# Altium footprint library PVT412ASPBF.PcbLib: 3 footprints
Each footprint in its own frame and in the unit in brackets; x right, y up, seen from the top. Pads: shape width x height; smd on the part's side, far side on the other; paste and mask are expansions set on the pad; w line width, h text height; cw(c..) or ccw(c..) is an arc to the next point about the centre after c.
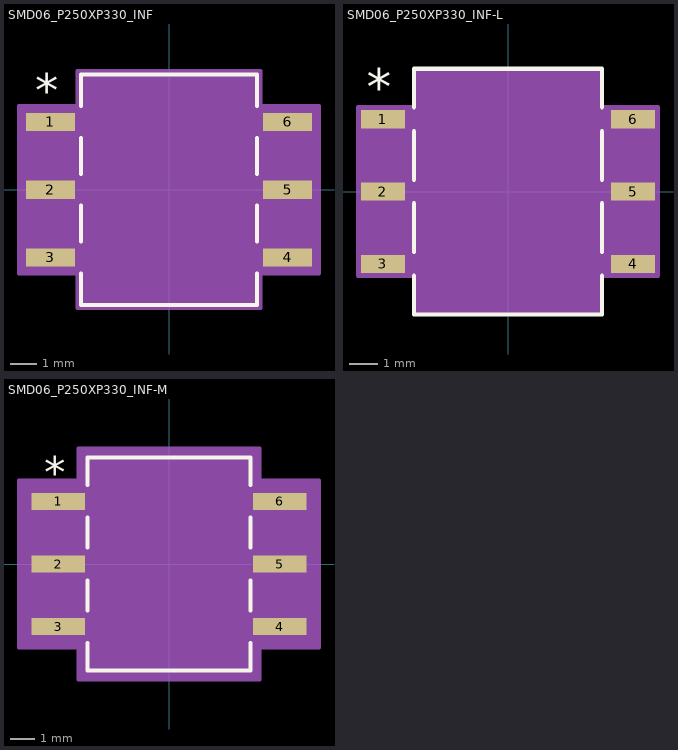
[diagram p0: the footprints below, top view; thin cyan lines are the x and y axes]

## SMD06_P250XP330_INF [mil]
pads (6):
  rect 73x27 smd paste+0 mask+0: 1(-175,100) 2(-175,0) 3(-175,-100) 4(175,-100) 5(175,0) 6(175,100)
Top Overlay:
  lines w6: -130,-123.47 -130,-170 130,-170 130,-123.47 ; -130,-76.53 -130,-23.47 ; -130,23.47 -130,76.53 ; -130,123.47 -130,170 130,170 130,123.47 ; 130,-76.53 130,-23.47 ; 130,23.47 130,76.53
  text "*" at -197.5,122 h50
Mechanical 13:
  lines w0: -12,165 ccw(c0,165) 12,165
  lines w1: -197.5,-112.5 -197.5,-87.5 -125,-87.5 -125,-112.5 -197.5,-112.5 ; -197.5,-12.5 -197.5,12.5 -125,12.5 -125,-12.5 -197.5,-12.5 ; -197.5,87.5 -197.5,112.5 -125,112.5 -125,87.5 -197.5,87.5 ; -125,-165 125,-165 125,165 -125,165 -125,-165 ; 125,-112.5 125,-87.5 197.5,-87.5 197.5,-112.5 125,-112.5 ; 125,-12.5 125,12.5 197.5,12.5 197.5,-12.5 125,-12.5 ; 125,87.5 125,112.5 197.5,112.5 197.5,87.5 125,87.5
  text "*" at -122.5,112 h50
Mechanical 15:
  region: -135,-123.5 -221.5,-123.5 -221.5,123.5 -135,123.5 -135,175 135,175 135,123.5 221.5,123.5 221.5,-123.5 135,-123.5 135,-175 -135,-175
  lines w6: -221.5,-123.5 -221.5,123.5 -135,123.5 -135,175 135,175 135,123.5 221.5,123.5 221.5,-123.5 135,-123.5 135,-175 -135,-175 -135,-123.5 -221.5,-123.5
3D body "SMD06_P250XP330_INF.step": height 135.12, standoff 0, extent -197.52,-165 197.52,165

## SMD06_P250XP330_INF-L [mil]
pads (6):
  rect 61x25 smd paste+0 mask+0: 1(-173,100) 2(-173,0) 3(-173,-100) 4(173,-100) 5(173,0) 6(173,100)
Top Overlay:
  lines w6: -130,-116.42 -130,-170 130,-170 130,-116.42 ; -130,-83.58 -130,-16.42 ; -130,16.42 -130,83.58 ; -130,116.42 -130,170 130,170 130,116.42 ; 130,-83.58 130,-16.42 ; 130,16.42 130,83.58
  text "*" at -195.5,120 h50
Mechanical 13:
  lines w0: -12,165 ccw(c0,165) 12,165
  lines w1: -197.5,-112.5 -197.5,-87.5 -125,-87.5 -125,-112.5 -197.5,-112.5 ; -197.5,-12.5 -197.5,12.5 -125,12.5 -125,-12.5 -197.5,-12.5 ; -197.5,87.5 -197.5,112.5 -125,112.5 -125,87.5 -197.5,87.5 ; -125,-165 125,-165 125,165 -125,165 -125,-165 ; 125,-112.5 125,-87.5 197.5,-87.5 197.5,-112.5 125,-112.5 ; 125,-12.5 125,12.5 197.5,12.5 197.5,-12.5 125,-12.5 ; 125,87.5 125,112.5 197.5,112.5 197.5,87.5 125,87.5
  text "*" at -122.5,112 h50
Mechanical 15:
  region: -129,-116.5 -207.5,-116.5 -207.5,116.5 -129,116.5 -129,169 129,169 129,116.5 207.5,116.5 207.5,-116.5 129,-116.5 129,-169 -129,-169
  lines w6: -207.5,-116.5 -207.5,116.5 -129,116.5 -129,169 129,169 129,116.5 207.5,116.5 207.5,-116.5 129,-116.5 129,-169 -129,-169 -129,-116.5 -207.5,-116.5
3D body "SMD06_P250XP330_INF.step": height 135.12, standoff 0, extent -197.52,-165 197.52,165

## SMD06_P250XP330_INF-M [mil]
pads (6):
  rect 85x27 smd paste+0 mask+0: 1(-177,100) 2(-177,0) 3(-177,-100) 4(177,-100) 5(177,0) 6(177,100)
Top Overlay:
  lines w6: -130,-125.8 -130,-170 130,-170 130,-125.8 ; -130,-74.2 -130,-25.8 ; -130,25.8 -130,74.2 ; -130,125.8 -130,170 130,170 130,125.8 ; 130,-74.2 130,-25.8 ; 130,25.8 130,74.2
  text "*" at -199.5,122 h50
Mechanical 13:
  lines w0: -12,165 ccw(c0,165) 12,165
  lines w1: -197.5,-112.5 -197.5,-87.5 -125,-87.5 -125,-112.5 -197.5,-112.5 ; -197.5,-12.5 -197.5,12.5 -125,12.5 -125,-12.5 -197.5,-12.5 ; -197.5,87.5 -197.5,112.5 -125,112.5 -125,87.5 -197.5,87.5 ; -125,-165 125,-165 125,165 -125,165 -125,-165 ; 125,-112.5 125,-87.5 197.5,-87.5 197.5,-112.5 125,-112.5 ; 125,-12.5 125,12.5 197.5,12.5 197.5,-12.5 125,-12.5 ; 125,87.5 125,112.5 197.5,112.5 197.5,87.5 125,87.5
  text "*" at -122.5,112 h50
Mechanical 15:
  region: -145,-133.5 -239.5,-133.5 -239.5,133.5 -145,133.5 -145,185 145,185 145,133.5 239.5,133.5 239.5,-133.5 145,-133.5 145,-185 -145,-185
  lines w6: -239.5,-133.5 -239.5,133.5 -145,133.5 -145,185 145,185 145,133.5 239.5,133.5 239.5,-133.5 145,-133.5 145,-185 -145,-185 -145,-133.5 -239.5,-133.5
3D body "SMD06_P250XP330_INF.step": height 135.12, standoff 0, extent -197.52,-165 197.52,165